# Altium footprint library SOP-14_208mil.PcbLib: 1 footprints
Each footprint in its own frame and in the unit in brackets; x right, y up, seen from the top. Pads: shape width x height; smd on the part's side, far side on the other; paste and mask are expansions set on the pad; w line width, h text height; cw(c..) or ccw(c..) is an arc to the next point about the centre after c.
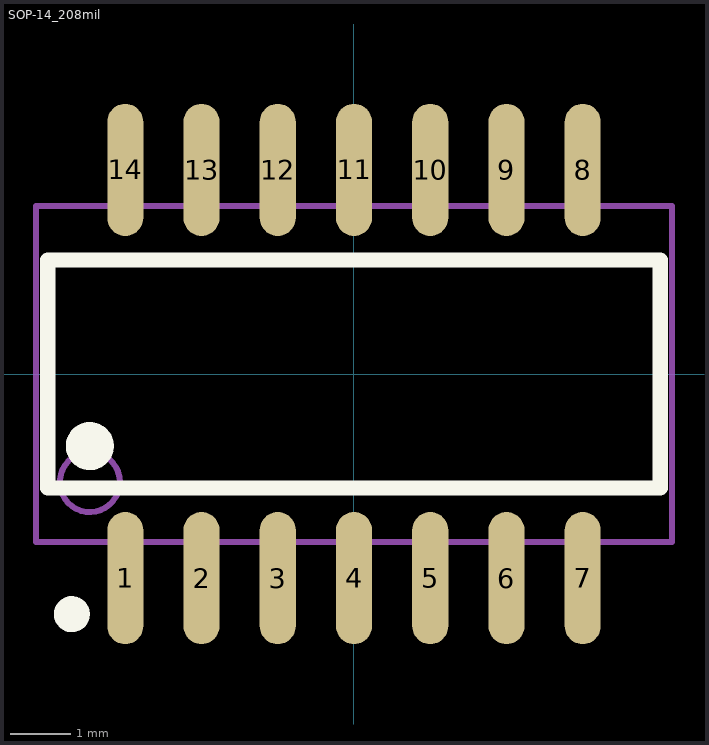
[diagram p0: the footprint, top view; thin cyan lines are the x and y axes]

## SOP-14_208mil [mm]
pads (14):
  oval 0.6x2.2 smd: 1(-3.81,-3.4) 2(-2.54,-3.4) 3(-1.27,-3.4) 4(0,-3.4) 5(1.27,-3.4) 6(2.54,-3.4) 7(3.81,-3.4) 8(3.81,3.4) 9(2.54,3.4) 10(1.27,3.4) 11(0,3.4) 12(-1.27,3.4) 13(-2.54,3.4) 14(-3.81,3.4)
Top Overlay:
  circle w0.3: c-4.7,-4 r0.15
  circle w0.4: c-4.4,-1.2 r0.2
  lines w0.254: -5.1,-1.9 -5.1,1.9 5.1,1.9 5.1,-1.9 -5.1,-1.9
Mechanical 13:
  circle w0.1: c-4.4,-1.8 r0.5
  lines w0.1: -5.3,-2.8 -5.3,2.8 5.3,2.8 5.3,-2.8 -5.3,-2.8